# Altium schematic symbol library MARCS Symbols.SchLib: 54 symbols
Pins are listed as number, name and electrical type; pins without a type are passive.

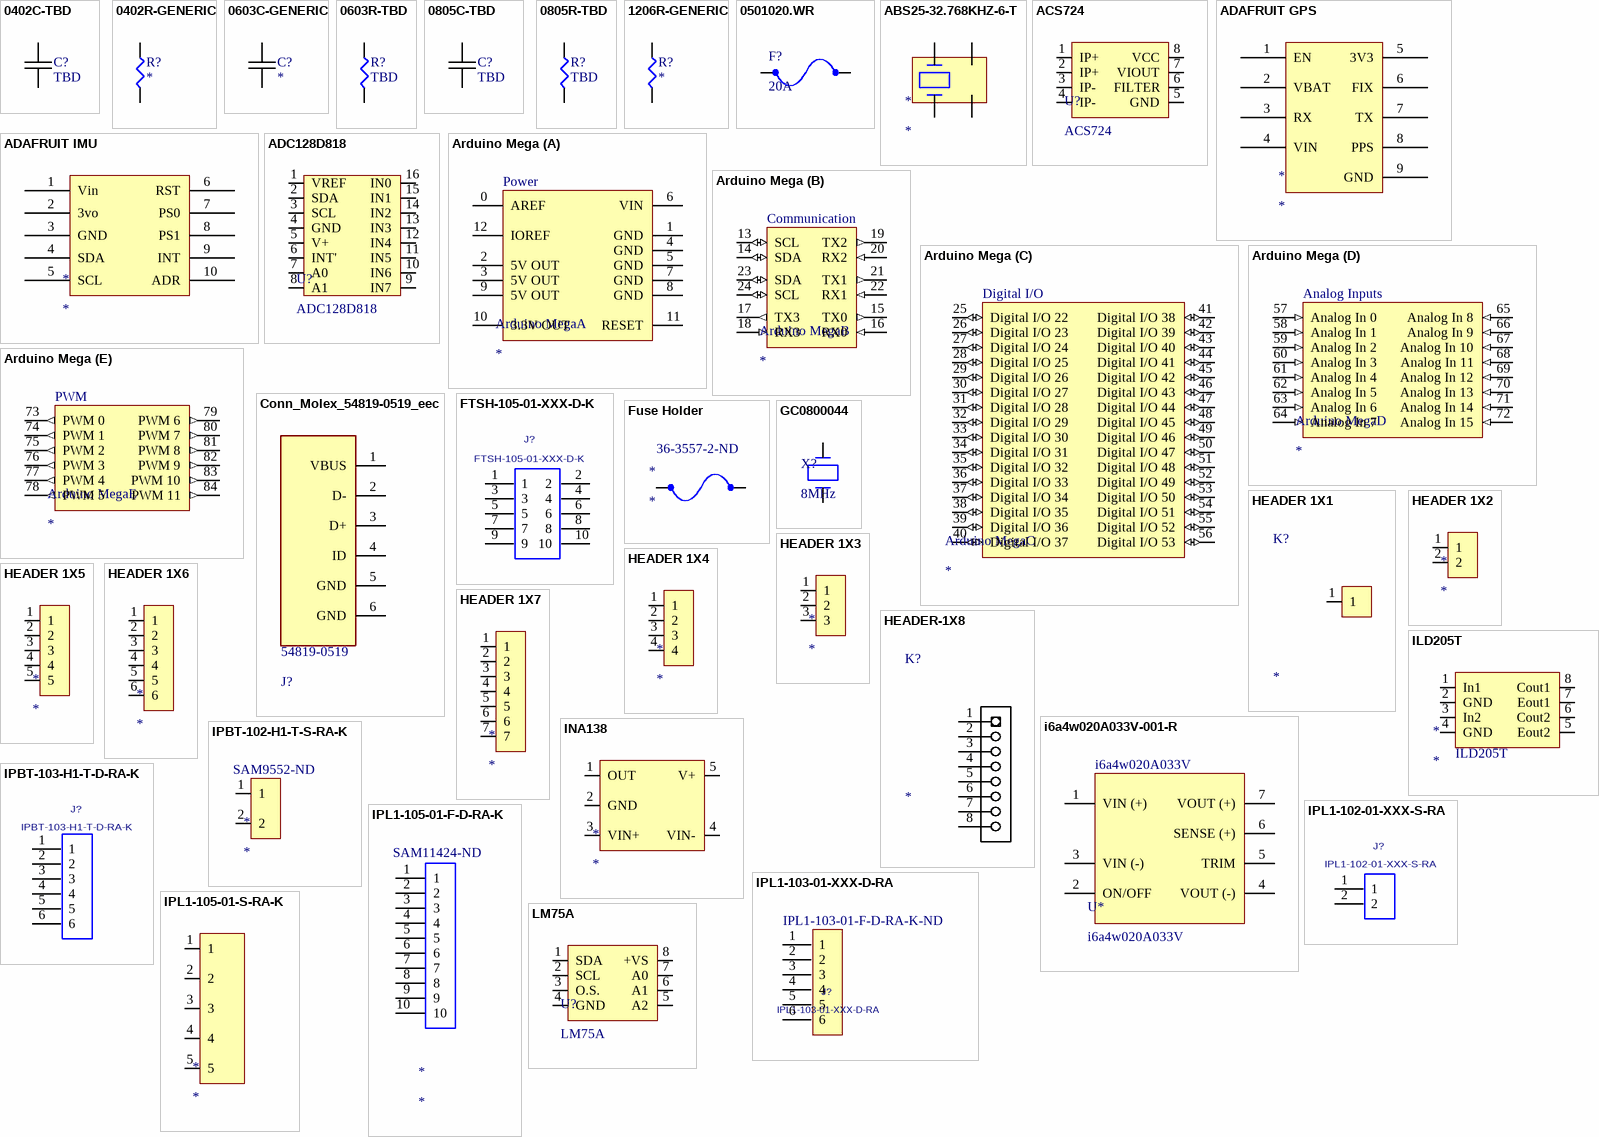
[diagram p0: symbols 0402C-TBD to LM75A]

## 0402C-TBD
designator C?, comment TBD
CAPACITOR 0402 CERAMIC
footprint TSSOP20
pins: 1, 2

## 0402R-GENERIC
designator R?
RESISTOR 0402 GENERIC
footprint 0402R-GENERIC
pins: 1, 2

## 0603C-GENERIC
designator C?
CAPACITOR 0603 CERAMIC GENERIC
footprint 0603C-GENERIC (CAPACITOR 0603)
pins: 1, 2

## 0603R-TBD
designator R?, comment TBD
RESISTOR 0603 VALUE TO BE DETERMINED
footprint 0603R-generic (RESISTOR 0603)
pins: 1, 2

## 0805C-TBD
designator C?, comment TBD
CAPACITOR 0805 CERAMIC VALUE TO BE DETERMINED
footprint 0805C-GENERIC (CAPACITOR 0805)
pins: 1, 2

## 0805R-TBD
designator R?, comment TBD
RESISTOR 0805 VALUE TO BE DETERMINED
footprint 0805R-GENERIC (RESISTOR 0805)
pins: 1, 2

## 1206R-GENERIC
designator R?
RESISTOR 0402 GENERIC
footprint 1206R-GENERIC
pins: 1, 2

## 0501020.WR
designator F?, comment 20A
footprint 0501020.WR (Fuse)
pins: 1, 2

## ABS25-32.768KHZ-6-T
designator *
footprint ABS25-32.768KHZ-6-T
pins: 1, 2, 3, 4

## ACS724
designator U?
footprint SOIC-8 V3
pins: 1 IP+, 2 IP+, 3 IP-, 4 IP-, 5 GND, 6 FILTER, 7 VIOUT, 8 VCC

## ADAFRUIT GPS
designator *
Supplier 1: Digi-Key; Supplier Part Number 1: 1528-1153-ND
footprint ADAFRUIT ULTIMATE GPS
pins: 1 EN, 2 VBAT (power), 3 RX, 4 VIN (power), 5 3V3 (power), 6 FIX, 7 TX, 8 PPS, 9 GND (power)

## ADAFRUIT IMU
designator *
Supplier 1: Arrow; Supplier Part Number 1: 2472
footprint ADAFRUIT IMU
pins: 1 Vin, 2 3vo, 3 GND, 4 SDA, 5 SCL, 6 RST, 7 PS0, 8 PS1, 9 INT, 10 ADR

## ADC128D818
designator U?
footprint ADC128D818 V3
pins: 1 VREF, 2 SDA, 3 SCL, 4 GND, 5 V+, 6 INT', 7 A0, 8 A1, 9 IN7, 10 IN6, 11 IN5, 12 IN4, 13 IN3, 14 IN2, 15 IN1, 16 IN0

## Arduino Mega
designator Arduino Mega
footprint ArduinoMega (Arduino Mega Footprint); pin to pad 0>AREF 1>GND 2>5VOUT 3>5VOUT 4>GND 5>GND 6>VIN 7>GND 8>GND 9>5V 10>3.3V 11>RESET 12>IOREF 13>SCL 14>SDA 15>TX0 16>RX0 17>TX3 18>RX3 19>TX2 20>RX2 21>TX1 22>RX1 23>SDA 24>SCL 25>DIO22 26>DIO23 27>DIO24 28>DIO25 29>DIO26 30>DIO27 31>DIO28 32>DIO29 33>DIO30 34>DIO31 35>DIO32 36>DIO33 37>DIO34 38>DIO35 39>DIO36 40>DIO37 41>DIO38 42>DIO39 43>DIO40 44>DIO41 45>DIO42 46>DIO43 47>DIO44 48>DIO45 49>DIO46 50>DIO47 51>DIO48 52>DIO49 53>DIO50 54>DIO51 55>DIO52 56>DIO53 57>A0 58>A1 59>A2 60>A3 61>A4 62>A5 63>A6 64>A7 65>A8 66>A9 67>A10 68>A11 69>A12 70>A13 71>A14 72>A15 73>PWM0 74>PWM1 75>PWM2 76>PWM3 77>PWM4 78>PWM5 79>PWM6 80>PWM7 81>PWM8 82>PWM9 83>PWM10 84>PWM11
part A pins: 0 AREF (power) "Analog Input Reference Voltage", 1 GND (power), 2 5V OUT (power), 3 5V OUT (power), 4 GND (power), 5 GND (power), 6 VIN (power), 7 GND (power), 8 GND (power), 9 5V OUT (power), 10 3.3V OUT (power), 11 RESET (power), 12 IOREF (power) "Lets shields know what voltage to expect (5V or 3.3V)"
part B pins: 13 SCL (io), 14 SDA (io), 15 TX0 (out), 16 RX0 (in), 17 TX3 (out), 18 RX3 (in), 19 TX2 (out), 20 RX2 (in), 21 TX1 (out), 22 RX1 (in), 23 SDA (io), 24 SCL (io)
part C pins: 25 Digital I/O 22 (io), 26 Digital I/O 23 (io), 27 Digital I/O 24 (io), 28 Digital I/O 25 (io), 29 Digital I/O 26 (io), 30 Digital I/O 27 (io), 31 Digital I/O 28 (io), 32 Digital I/O 29 (io), 33 Digital I/O 30 (io), 34 Digital I/O 31 (io), 35 Digital I/O 32 (io), 36 Digital I/O 33 (io), 37 Digital I/O 34 (io), 38 Digital I/O 35 (io), 39 Digital I/O 36 (io), 40 Digital I/O 37 (io), 41 Digital I/O 38 (io), 42 Digital I/O 39 (io), 43 Digital I/O 40 (io), 44 Digital I/O 41 (io), 45 Digital I/O 42 (io), 46 Digital I/O 43 (io), 47 Digital I/O 44 (io), 48 Digital I/O 45 (io), 49 Digital I/O 46 (io), 50 Digital I/O 47 (io), 51 Digital I/O 48 (io), 52 Digital I/O 49 (io), 53 Digital I/O 50 (io), 54 Digital I/O 51 (io), 55 Digital I/O 52 (io), 56 Digital I/O 53 (io)
part D pins: 57 Analog In 0 (in), 58 Analog In 1 (in), 59 Analog In 2 (in), 60 Analog In 3 (in), 61 Analog In 4 (in), 62 Analog In 5 (in), 63 Analog In 6 (in), 64 Analog In 7 (in), 65 Analog In 8 (in), 66 Analog In 9 (in), 67 Analog In 10 (in), 68 Analog In 11 (in), 69 Analog In 12 (in), 70 Analog In 13 (in), 71 Analog In 14 (in), 72 Analog In 15 (in)
part E pins: 73 PWM 0 (out), 74 PWM 1 (out), 75 PWM 2 (out), 76 PWM 3 (out), 77 PWM 4 (out), 78 PWM 5 (out), 79 PWM 6 (out), 80 PWM 7 (out), 81 PWM 8 (out), 82 PWM 9 (out), 83 PWM 10 (out), 84 PWM 11 (out)
part A text: Power
part B text: Communication
part C text: Digital I/O
part D text: Analog Inputs
part E text: PWM

## Conn_Molex_54819-0519_eec
designator J?  Part Number: 54819-0519
CONN USB - mini B USB 2.0 OTG Receptacle Connector 5 Position Through Hole, Right Angle; Manufacturer: Molex; Is Female: yes; helpURL: https://upverter.com/upn/revision/57f7d65304c3d878/; ComponentLink2Description: Datasheet; Temperature: -20°C to +85°C; Package: CONN_PTH_7MM7_9MM0_USB; Supplier 2: Mouser; Supplier 1: Digi-Key; ComponentLink1URL: https://upverter.com/upn/revision/57f7d65304c3d878/; Supplier Part Number 2: 538-54819-0519; Supplier Part Number 1: WM17115-ND; ComponentLink1Description: Upverter; ComponentLink2URL: https://upverter.com/datasheet/9d71f2f8719b3fc0715bd6f9e6d9d5a5d296bb87.pdf; RoHS: TRUE; Mouser Part Number: 538-54819-0519; Temperature Range High: +85°C; Digikey Description: CONN USB - mini B USB 2.0 OTG Receptacle Connector 5 Position Through Hole, Right Angle; Digikey Part Number: WM17115-ND; Lead Free: yes; Temperature Range Low: -20°C
footprint Molex_54819-0519_0
footprint Molex_54819-0519_0
pins: 1 VBUS, 2 D-, 3 D+, 4 ID, 5 GND, 6 GND

## FTSH-105-01-XXX-D-K
designator J?
TERMINAL STRIP, .050"(1.27mm) PITCH, 10 PINS, KEYING OPTION.; MANUFACTURER: SAMTEC; CREATED: September 26, 2016 - Wendy Xin; PCB DECAL: FTSH-105-01-XXX-D-K
footprint FTSH-105-01-XXX-D-K
pins: 1, 2, 3, 4, 5, 6, 7, 8, 9, 10

## Fuse Holder
designator *  Supplier Part Number 1: 36-3557-2-ND
Supplier 1: Digi-Key
footprint Fuse Holder (Keystone 3557-2)
pins: 1, 2

## GC0800044
designator X?, comment 8MHz
Diodes Incorporated GC0800044; Supplier 1: Digi-Key; Supplier Part Number 1: GC0800044TR-ND
footprint GC0800044
pins: 1, 2

## HEADER 1X1
designator K?
footprint Header 1x1 (.1" Header)
pins: 1

## HEADER 1X2
designator *
footprint Header 1x2 (.1" Header)
pins: 1, 2

## HEADER 1X3
designator *
footprint Header 1x3 (.1" Header)
pins: 1, 2, 3

## HEADER 1X4
designator *
footprint Header 1x4 (.1" Header)
pins: 1, 2, 3, 4

## HEADER 1X5
designator *
footprint Header 1x5 (.1" Header)
pins: 1, 2, 3, 4, 5

## HEADER 1X6
designator *
footprint Header 1x6 (.1" Header)
pins: 1, 2, 3, 4, 5, 6

## HEADER 1X7
designator *
footprint Header 1x7 (.1" Header)
pins: 1, 2, 3, 4, 5, 6, 7

## HEADER-1X8
designator K?
Supplier 1: Digi-Key; Supplier Part Number 1: S1011E-36-ND
footprint HEADER-1X8
pins: 1, 2, 3, 4, 5, 6, 7, 8

## i6a4w020A033V-001-R
designator U*, comment i6a4w020A033V
TDK-Lambda DC/DC Converter; Supplier 1: Digi-Key; Supplier Part Number 1: i6a4w020A033V
footprint i6a4w020A033V-001-R (TDK Lambda DC/DC Converter)
pins: 1 VIN (+) (power), 2 ON/OFF (power), 3 VIN (-) (power), 4 VOUT (-) (power), 5 TRIM (power), 6 SENSE (+) (power), 7 VOUT (+) (power)

## ILD205T
designator *  Supplier Part Number 1: ILD205T
Supplier 1: Arrow
footprint ILD205T
pins: 1 In1, 2 GND, 3 In2, 4 GND, 5 Eout2, 6 Cout2, 7 Eout1, 8 Cout1

## INA138
designator *
footprint SOT23
pins: 1 OUT, 2 GND, 3 VIN+, 4 VIN-, 5 V+

## IPBT-102-H1-T-S-RA-K
designator *  Supplier Part Number 1: SAM9552-ND
Supplier 1: Digi-Key
footprint IPBT-102-H1-T-S-RA-K
pins: 1, 2

## IPBT-103-H1-T-D-RA-K
designator J?
0.165 INCH DOUBLE ROW TERMINAL ASSEMBLY; MANUFACTURER: SAMTEC; CREATED: 13 JAN 2010-TONY WANG; PCB DECAL: IPBT-103-H1-T-D-RA-K
footprint IPBT-103-H1-T-D-RA-K
pins: 1, 2, 3, 4, 5, 6

## IPL1-102-01-XXX-S-RA
designator J?
Terminal Assembly, Single Row, Right Angle, Thru-Hole, 2 Pins.; MANUFACTURER: SAMTEC; CREATED: February 14, 2016 - Wendy Xin; PCB DECAL: IPL1-102-01-XXX-S-RA
footprint IPL1-102-01-XXX-S-RA
pins: 1, 2

## IPL1-103-01-XXX-D-RA
designator J?  Supplier Part Number 1: IPL1-103-01-F-D-RA-K-ND
Terminal Assembly, Double Row, Right Angle, Thru-Hole, 0.100" x 0.100" Pitch, 6Pins; MANUFACTURER: SAMTEC; CREATED: July 16, 2014 - Wendy Xin; PCB DECAL: IPL1-103-01-XXX-D-RA; Supplier 1: Digi-Key
footprint IPL1-103-01-XXX-D-RA
pins: 1, 2, 3, 4, 5, 6

## IPL1-105-01-F-D-RA-K
designator *  Supplier Part Number 1: SAM11424-ND
Supplier 1: Digi-Key
footprint IPL1-105-01-F-D-RA-K
pins: 1, 2, 3, 4, 5, 6, 7, 8, 9, 10

## IPL1-105-01-S-RA-K
designator *
footprint IPL1-105-01-S-RA-K
pins: 1, 2, 3, 4, 5

## LM75A
designator U?
footprint SOIC-8 V3
pins: 1 SDA, 2 SCL, 3 O.S., 4 GND, 5 A2, 6 A1, 7 A0, 8 +VS

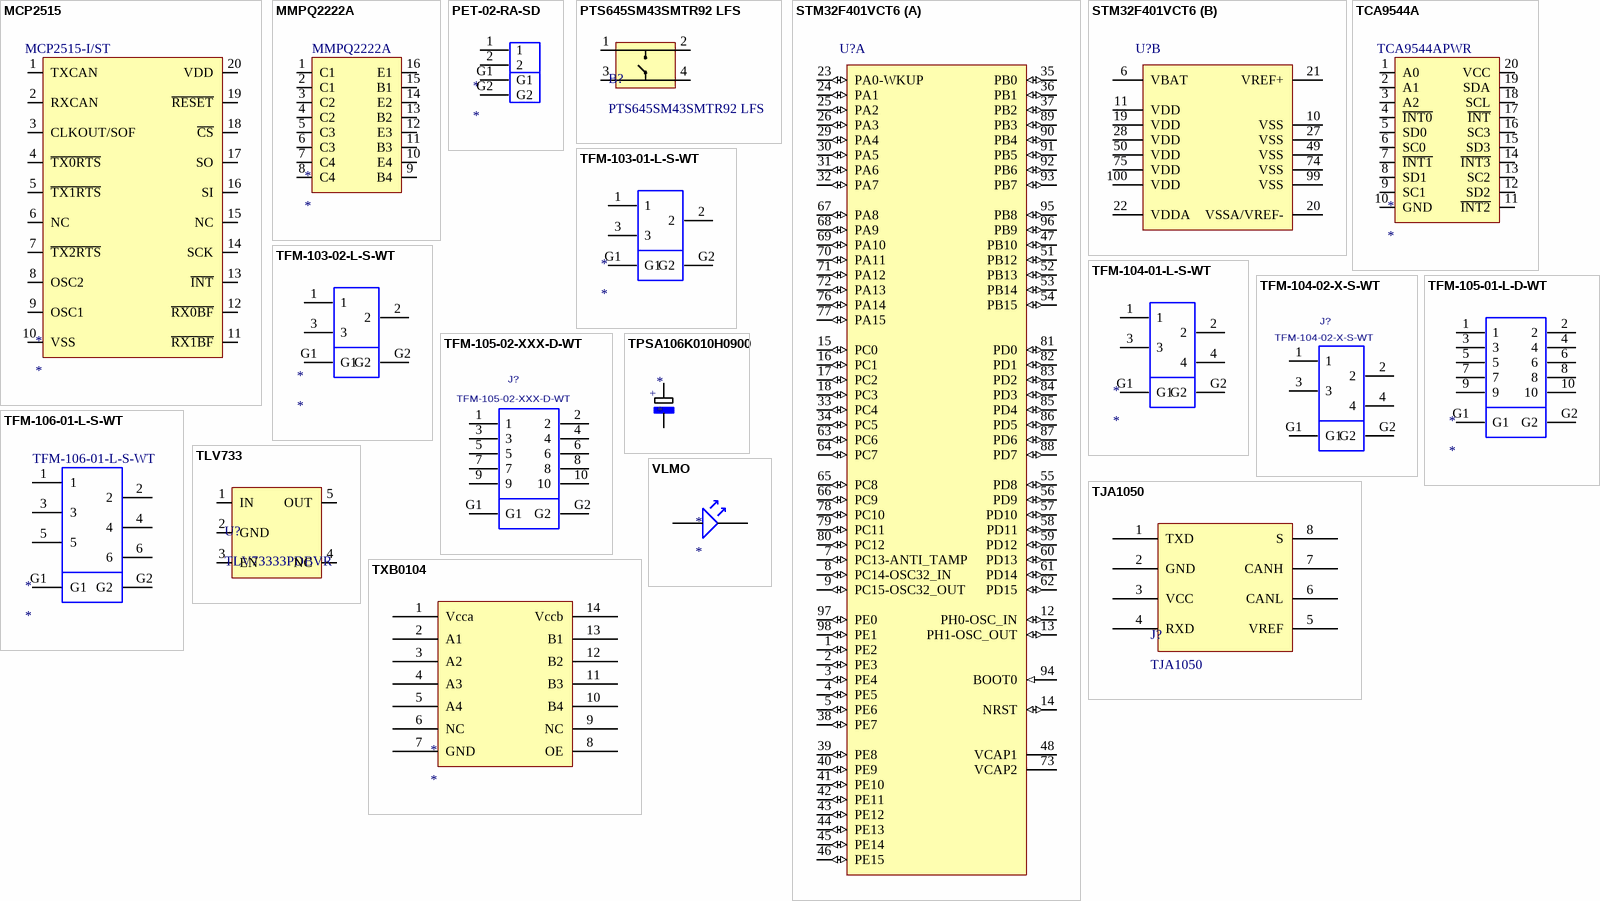
[diagram p1: symbols MCP2515 to VLMO]

## MCP2515
designator *  Supplier Part Number 1: MCP2515-I/ST
Supplier 1: Arrow
footprint TSSOP20
pins: 1 TXCAN, 2 RXCAN, 3 CLKOUT/SOF, 4 ~{TX0RTS}, 5 ~{TX1RTS}, 6 NC, 7 ~{TX2RTS}, 8 OSC2, 9 OSC1, 10 VSS, 11 ~{RX1BF}, 12 ~{RX0BF}, 13 ~{INT}, 14 SCK, 15 NC, 16 SI, 17 SO, 18 ~{CS}, 19 ~{RESET}, 20 VDD

## MMPQ2222A
designator *  Supplier Part Number 1: MMPQ2222A
Supplier 1: Arrow
footprint MMPQ2222A (BJT NPN Quad Transistor)
pins: 1 C1, 2 C1, 3 C2, 4 C2, 5 C3, 6 C3, 7 C4, 8 C4, 9 B4, 10 E4, 11 B3, 12 E3, 13 B2, 14 E2, 15 B1, 16 E1

## PET-02-RA-SD
designator *
footprint PET-02-01-S-RA-SD
pins: 1, 2, G1, G2

## PTS645SM43SMTR92 LFS
designator B?
footprint PTS645SM43SMTR92 LFS (SMD Button)
pins: 1, 2, 3, 4

## STM32F401VCT6
designator U?
ARM Cortex-M4 32-bit MCU+FPU, 105 DMIPS, 256 kB Flash, 64 kB Internal RAM, 79 I/Os, 100-pin LQFP, -40 to 85 degC, Tray; Manufacturer: STMicroelectronics; PartNumber: STM32F401VCT6; FLASH Size (Prog) (kB): 256; I/Os (High Current): 79; Internal RAM Size (kB): 64; Operating Frequency(F) (Processor speed) (MHz): 84; Supply Voltage(Vcc) max (V): 3.6; Supply Voltage(Vcc) min (V): 1.8; DatasheetVersion: Rev. 1; PackageVersion: Rev. 1, 06/2013; PackageReference: LQFP100; PackageDescription: 100-Pin Low Profile Quad Flat Package, 14 x 14 mm Body, 0.5 mm Pitch; Supplier 1: Digi-Key; Supplier Part Number 1: 497-14048-ND; Supplier 2: Newark; Supplier Part Number 2: 19X6223; Supplier 3: Mouser; Supplier Part Number 3: 511-STM32F401VCT6; Core: ARM Cortex-M4; Packing: Tray; Mounting Technology: Surface Mount; ComponentLink1Description: Manufacturer URL; ComponentLink1URL: http://www.st.com/web/en/home.html; ComponentLink2Description: Datasheet; ComponentLink2URL: http://www.st.com/st-web-ui/static/active/en/resource/technical/document/data_brief/DM00071938.pdf; ComponentLink3Description: Package Specification; ComponentLink3URL: http://www.st.com/st-web-ui/static/active/en/resource/technical/document/data_brief/DM00071938.pdf
footprint STM-LQFP100_V (Thin QFP, 100-Leads, Body 14x14mm, Pitch 0.5mm, ST Recommended)
part A pins: 1 PE2 (io) "PE2/SPI4_SCK,TRACECLK", 2 PE3 (io) "PE3/TRACED0", 3 PE4 (io) "PE4/SPI4_NSS,TRACED1", 4 PE5 (io) "PE5/SPI4_MISO,TIM9_CH1,TRACED2", 5 PE6 (io) "PE6/SPI4_MOSI,TIM9_CH2,TRACED3", 7 PC13-ANTI_TAMP (io) "PC13-ANTI_TAMP/TAMP_1", 8 PC14-OSC32_IN (io) "PC14-OSC32_IN/OSC32_IN", 9 PC15-OSC32_OUT (io) "PC15-OSC32_OUT/OSC32_OUT", 12 PH0-OSC_IN (io) "PH0-OSC_IN/OSC_IN", 13 PH1-OSC_OUT (io) "PH1-OSC_OUT/OSC_OUT", 14 NRST (io), 15 PC0 (io) "PC0/ADC1_10", 16 PC1 (io) "PC1/ADC1_11", 17 PC2 (io) "PC2/SPI2_MISO,I2S2ext_SD/ADC1_12", 18 PC3 (io) "PC3/SPI2_MOSI/I2S2_SD/ADC1_13", 23 PA0-WKUP (io) "PA0-WKUP/USART2_CTS,TIM2_CH1/TIM2_ETR,TIM5_CH1/ADC1_0,WKUP", 24 PA1 (io) "PA1/USART2_RTS,TIM2_CH2,TIM5_CH2/ADC1_1", 25 PA2 (io) "PA2/USART2_TX,TIM2_CH3,TIM5_CH3,TIM9_CH1/ADC1_2", 26 PA3 (io) "PA3/USART2_RX,TIM2_CH4,TIM5_CH4,TIM9_CH2/ADC1_3", 29 PA4 (io) "PA4/SPI1_NSS,SPI3_NSS/I2S3_WS,USART2_CK/ADC1_4", 30 PA5 (io) "PA5/SPI1_SCK,TIM2_CH1/TIM2_ETR/ADC1_5", 31 PA6 (io) "PA6/SPI1_MISO,TIM1_BKIN,TIM3_CH1/ADC1_6", 32 PA7 (io) "PA7/SPI1_MOSI,TIM1_CH1N,TIM3_CH2/ADC1_7", 33 PC4 (io) "PC4/ADC1_14", 34 PC5 (io) "PC5/ADC1_15", 35 PB0 (io) "PB0/TIM1_CH2N,TIM3_CH3/ADC1_8", 36 PB1 (io) "PB1/TIM1_CH3N,TIM3_CH4/ADC1_9", 37 PB2 (io), 38 PE7 (io) "PE7/TIM1_ETR", 39 PE8 (io) "PE8/TIM1_CH1N", 40 PE9 (io) "PE9/TIM1_CH1", 41 PE10 (io) "PE10/TIM1_CH2N", 42 PE11 (io) "PE11/SPI4_NSS,TIM1_CH2", 43 PE12 (io) "PE12/SPI4_SCK,TIM1_CH3N", 44 PE13 (io) "PE13/SPI4_MISO,TIM1_CH3", 45 PE14 (io) "PE14/SPI4_MOSI,TIM1_CH4", 46 PE15 (io) "PE15/TIM1_BKIN", 47 PB10 (io) "PB10/SPI2_SCK/I2S2_CK,I2C2_SCL,TIM2_CH3", 48 VCAP1 (power), 51 PB12 (io) "PB12/SPI2_NSS/I2S2_WS,I2C2_SMBAL,TIM1_BKIN", 52 PB13 (io) "PB13/SPI2_SCK/I2S2_CK,TIM1_CH1N", 53 PB14 (io) "PB14/SPI2_MISO,I2S2ext_SD,TIM1_CH2N", 54 PB15 (io) "PB15/SPI2_MOSI/I2S2_SD,TIM1_CH3N,RTC_50Hz", 55 PD8 (io), 56 PD9 (io), 57 PD10 (io), 58 PD11 (io), 59 PD12 (io) "PD12/TIM4_CH1", 60 PD13 (io) "PD13/TIM4_CH2", 61 PD14 (io) "PD14/TIM4_CH3", 62 PD15 (io) "PD15/TIM4_CH4", 63 PC6 (io) "PC6/I2S2_MCK,USART6_TX,TIM3_CH1,SDIO_D6", 64 PC7 (io) "PC7/I2S3_MCK,USART6_RX,TIM3_CH2,SDIO_D7", 65 PC8 (io) "PC8/USART6_CK,TIM3_CH3,SDIO_D0", 66 PC9 (io) "PC9/I2S2_CKIN,I2C3_SDA,TIM3_CH4,SDIO_D1,MCO_2", 67 PA8 (io) "PA8/I2C3_SCL,USART1_CK,TIM1_CH1,USB_FS_SOF,MCO_1", 68 PA9 (io) "PA9/I2C3_SMBAL,USART1_TX,TIM1_CH2,USB_FS_VBUS", 69 PA10 (io) "PA10/USART1_RX,TIM1_CH3,USB_FS_ID", 70 PA11 (io) "PA11/USART1_CTS,USART6_TX,TIM1_CH4,USB_FS_DM", 71 PA12 (io) "PA12/USART1_RTS,USART6_RX,TIM1_ETR,USB_FS_DP", 72 PA13 (io) "PA13/JTMS-SWDIO", 73 VCAP2 (power), 76 PA14 (io) "PA14/JTCK-SWCLK", 77 PA15 (io) "PA15/SPI1_NSS,SPI3_NSS/I2S3_WS,TIM2_CH1/TIM2_ETR,JTDI", 78 PC10 (io) "PC10/SPI3_SCK/I2S3_CK,SDIO_D2", 79 PC11 (io) "PC11/I2S3ext_SD,SPI3_MISO,SDIO_D3", 80 PC12 (io) "PC12/SPI3_MOSI/I2S3_SD,SDIO_CK", 81 PD0 (io), 82 PD1 (io), 83 PD2 (io) "PD2/TIM3_ETR,SDIO_CMD", 84 PD3 (io) "PD3/SPI2_SCK/I2S2_CK,USART2_CTS", 85 PD4 (io) "PD4/USART2_RTS", 86 PD5 (io) "PD5/USART2_TX", 87 PD6 (io) "PD6/SPI3_MOSI/I2S3_SD,USART2_RX", 88 PD7 (io) "PD7/USART2_CK", 89 PB3 (io) "PB3/SPI1_SCK,SPI3_SCK/I2S3_CK,I2C2_SDA,TIM2_CH2,JTDO-SWO", 90 PB4 (io) "PB4/SPI1_MISO,SPI3_MISO,I2S3ext_SD,I2C3_SDA,TIM3_CH1,JTRST", 91 PB5 (io) "PB5/SPI1_MOSI,SPI3_MOSI/I2S3_SD,I2C1_SMBAL,TIM3_CH2", 92 PB6 (io) "PB6/I2C1_SCL,USART1_TX,TIM4_CH1", 93 PB7 (io) "PB7/I2C1_SDA,USART1_RX,TIM4_CH2", 94 BOOT0 (in), 95 PB8 (io) "PB8/I2C1_SCL,TIM4_CH3,TIM10_CH1,SDIO_D4", 96 PB9 (io) "PB9/SPI2_NSS/I2S2_WS,I2C1_SDA,TIM4_CH4,TIM11_CH1,SDIO_D5", 97 PE0 (io) "PE0/TIM4_ETR", 98 PE1 (io)
part B pins: 6 VBAT (power), 10 VSS (power), 11 VDD (power), 19 VDD (power), 20 VSSA/VREF- (power), 21 VREF+ (power), 22 VDDA (power), 27 VSS (power), 28 VDD (power), 49 VSS (power), 50 VDD (power), 74 VSS (power), 75 VDD (power), 99 VSS (power), 100 VDD (power)

## TCA9544A
designator *  Supplier Part Number 1: TCA9544APWR
Supplier 1: Arrow Electronics, Inc.
footprint TSSOP20
pins: 1 A0, 2 A1, 3 A2, 4 ~{INT0}, 5 SD0, 6 SC0, 7 ~{INT1}, 8 SD1, 9 SC1, 10 GND, 11 ~{INT2}, 12 SD2, 13 SC2, 14 ~{INT3}, 15 SD3, 16 SC3, 17 ~{INT}, 18 SCL, 19 SDA, 20 VCC

## TFM-103-01-L-S-WT
designator *
footprint TFM-103-01-L-S-WT
pins: 1, 2, 3, G1, G2

## TFM-103-02-L-S-WT
designator *
footprint TFM-103-02-L-S-WT
pins: 1, 2, 3, G1, G2

## TFM-104-01-L-S-WT
designator *
footprint TFM-104-01-L-S-WT
pins: 1, 2, 3, 4, G1, G2

## TFM-104-02-X-S-WT
designator J?
.050 C.L. SINGLE ROW SHROUDED TERMINAL STRIP, SURFACE MOUNT.; MANUFACTURER: SAMTEC; CREATED: April 13, 2016 - Wendy Xin; PCB DECAL: TFM-104-02-X-S-WT
footprint TFM-104-02-X-S-WT
pins: 1, 2, 3, 4, G1, G2

## TFM-105-01-L-D-WT
designator *
footprint TFM-105-01-L-D-WT
pins: 1, 2, 3, 4, 5, 6, 7, 8, 9, 10, G1, G2

## TFM-105-02-XXX-D-WT
designator J?
0.050" TERMINAL STRIP, SURFACE MOUNT ASSEMBLY.; MANUFACTURER: SAMTEC; CREATED: August 11, 2016 - Wendy Xin; PCB DECAL: TFM-105-02-XXX-D-WT
footprint TFM-105-02-XXX-D-WT
pins: 1, 2, 3, 4, 5, 6, 7, 8, 9, 10, G1, G2

## TFM-106-01-L-S-WT
designator *  Supplier Part Number 1: TFM-106-01-L-S-WT
Supplier 1: Digi-Key
footprint TFM-106-01-L-S-WT
pins: 1, 2, 3, 4, 5, 6, G1, G2

## TJA1050
designator J?
footprint TJA1050 (SOT96)
pins: 1 TXD, 2 GND, 3 VCC, 4 RXD, 5 VREF, 6 CANL, 7 CANH, 8 S

## TLV733
designator U?, comment TLV73333PDBVR
footprint TLV733P (3.3V Converter)
pins: 1 IN, 2 GND, 3 EN, 4 NC, 5 OUT

## TPSA106K010H0900
designator *
footprint TPSA106K010H0900 (Polarized 10V 10uF Capacitor)
pins: 1 POS, 2 NEG
text: +

## TXB0104
designator *
footprint TXB0104 (SOIC14)
pins: 1 Vcca, 2 A1, 3 A2, 4 A3, 5 A4, 6 NC, 7 GND, 8 OE, 9 NC, 10 B4, 11 B3, 12 B2, 13 B1, 14 Vccb

## VLMO
designator *
Vishay - VLMO31K1L2-GS08; Supplier 1: Digi-Key; Supplier Part Number 1: VLMO31K1L2-GS08CT-ND
footprint VLMO (Vishay - VLMO31K1L2-GS08)
pins: 1 (power), 2 (power)